# Altium schematic symbol library Capacitors.SchLib: 77 symbols (part 1 of 2)
Pins are listed as number, name and electrical type; pins without a type are passive.

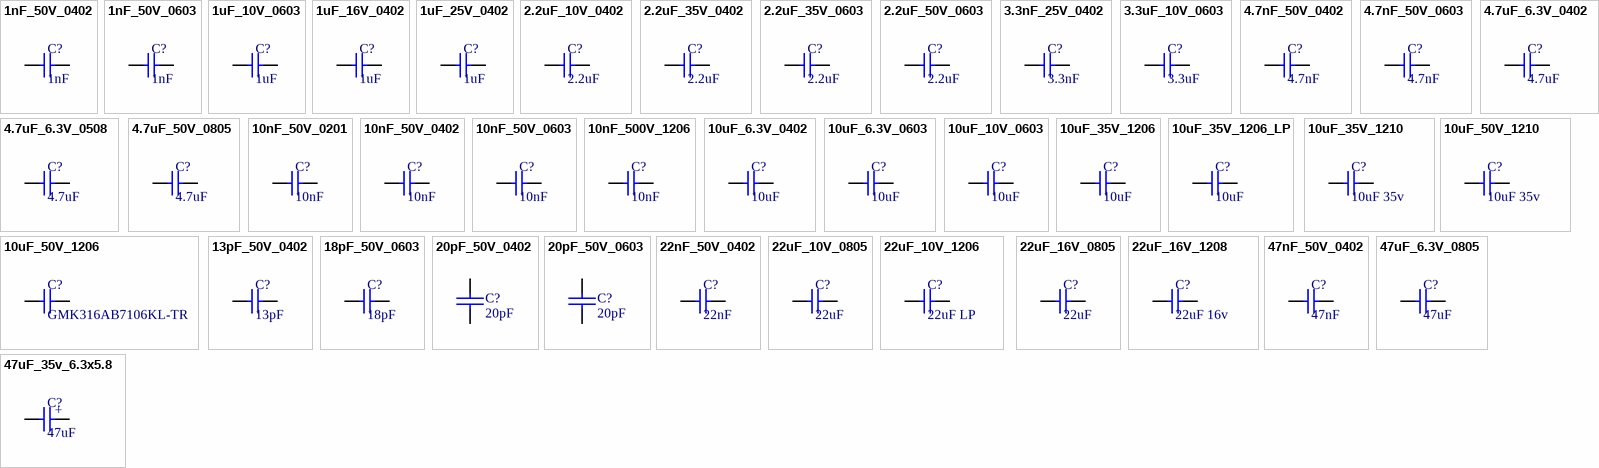
[diagram p0: symbols 1nF_50V_0402 to 47uF_35v_6.3x5.8]

## 1nF_50V_0402
designator C?, comment 1nF
CAP CER 1000PF 50V 10% X7R 0402; Manufacturer: Samsung Electro-Mechanics America, Inc; Manufacturer Part Number: CL05B102KB5NNNC; Supplier 1: Digi-Key; RoHS: RoHS Compliant; Category: Capacitors; Stock 1: 699283; Pricing 1: 1=0.14, 10=0.016, 25=0.012, 100=0.0077, 500=0.00536, 1000=0.00418, 2500=0.00376, 5000=0.00348 (CAD); Packaging: Cut Tape (CT); Capacitance: 1000pF; Tolerance: ±10%; Voltage - Rated: 50V; Temperature Coefficient: X7R; Mounting Type: Surface Mount, MLCC; Operating Temperature: -55°C ~ 125°C; Applications: General Purpose; Ratings: -; Package / Case: 0402 (1005 Metric); Size / Dimension: 0.039" L x 0.020" W (1.00mm x 0.50mm); Height - Seated (Max): -; Thickness (Max): 0.022" (0.55mm); Lead Spacing: -; Features: -; Lead Style: -; ComponentLink1URL: http://www.samsungsem.com/kr/front/downloadcms.do?path=/kr/support/product-search/mlcc/__icsFiles/afieldfile/2014/11/05&fileName=S_CL05B102KB5NNNC.pdf; ComponentLink1Description: http://www.samsungsem.com/kr/front/downloadcms.do?path=/kr/support/product-search/mlcc/__icsFiles/afieldfile/2014/11/05&fileName=S_CL05B102KB5NNNC.pdf; Supplier Part Number 1: 1276-1032-1-ND
footprint CAP_0402_M (Chip Capacitor, 2-Leads, Body 1.00x0.50mm, IPC Medium Density)
pins: 1, 2

## 1nF_50V_0603
designator C?, comment 1nF
CAP CER 1000PF 50V 10% X7R 0603; Manufacturer: Kemet; Manufacturer Part Number: C0603C102K5RACTU; Supplier 1: Digi-Key; Supplier Part Number 1: 399-1082-1-ND; RoHS: RoHS Compliant; Category: Capacitors; Stock 1: 898768; Pricing 1: 1=0.13, 10=0.03, 25=0.0216, 50=0.0166, 100=0.0141, 250=0.01156, 1000=0.00754 (CAD); Packaging: Cut Tape (CT); Capacitance: 1000pF; Tolerance: ±10%; Voltage - Rated: 50V; Temperature Coefficient: X7R; Mounting Type: Surface Mount, MLCC; Operating Temperature: -55°C ~ 125°C; Applications: General Purpose; Ratings: -; Package / Case: 0603 (1608 Metric); Size / Dimension: 0.063" L x 0.031" W (1.60mm x 0.80mm); Height - Seated (Max): -; Thickness (Max): 0.034" (0.87mm); Lead Spacing: -; Features: -; Lead Style: -; ComponentLink1URL: http://www.kemet.com/docfinder?Partnumber=C0603C102K5RACTU; ComponentLink1Description: http://www.kemet.com/docfinder?Partnumber=C0603C102K5RACTU
footprint CAP_0603 (Chip Capacitor, 2-Leads, Body 1,6x0,8mm, IPC High Density)
pins: 1, 2

## 1uF_10V_0603
designator C?, comment 1uF
CAP CER 1UF 10V 10% X7R 0603; Manufacturer: Taiyo Yuden; Manufacturer Part Number: LMK107B7105KA-T; Capacitance: 1.0µF; Supplier 1: Digi-Key; Supplier Part Number 1: 587-1242-1-ND; RoHS: RoHS Compliant; Category: Capacitors; Stock 1: 734203; Pricing 1: 1=0.13, 10=0.052, 50=0.028, 100=0.0235, 250=0.01924, 500=0.01646, 1000=0.01282 (CAD); Packaging: Cut Tape (CT); Tolerance: ±10%; Voltage - Rated: 10V; Temperature Coefficient: X7R; Mounting Type: Surface Mount, MLCC; Operating Temperature: -55°C ~ 125°C; Applications: General Purpose; Ratings: -; Package / Case: 0603 (1608 Metric); Size / Dimension: 0.063" L x 0.031" W (1.60mm x 0.80mm); Height - Seated (Max): -; Thickness (Max): 0.035" (0.90mm); Lead Spacing: -; Features: -; Lead Style: -; ComponentLink1URL: http://www.yuden.co.jp/or/product/category/capacitor/LMK107B7105KA-T.pdf; ComponentLink1Description: http://www.yuden.co.jp/or/product/category/capacitor/LMK107B7105KA-T.pdf
footprint CAP_0603 (Chip Capacitor, 2-Leads, Body 1,6x0,8mm, IPC High Density)
pins: 1, 2

## 1uF_16V_0402
designator C?, comment 1uF
CAP CER 1UF 16V 10% X5R 0402; Manufacturer: TDK Corporation; Manufacturer Part Number: C1005X5R1C105K050BC; Capacitance: 1µF; Supplier 1: Digi-Key; RoHS: RoHS Compliant; Category: Capacitors; Stock 1: 3360264; Pricing 1: 1=0.16, 10=0.108, 100=0.0514, 250=0.04328, 500=0.03626, 1000=0.02976, 5000=0.02516 (CAD); Packaging: Cut Tape (CT); Tolerance: ±10%; Voltage - Rated: 16V; Temperature Coefficient: X5R; Mounting Type: Surface Mount, MLCC; Operating Temperature: -55°C ~ 85°C; Applications: General Purpose; Ratings: -; Package / Case: 0402 (1005 Metric); Size / Dimension: 0.039" L x 0.020" W (1.00mm x 0.50mm); Height - Seated (Max): -; Thickness (Max): 0.022" (0.55mm); Lead Spacing: -; Features: -; Lead Style: -; ComponentLink1URL: http://product.tdk.com/en/catalog/datasheets/mlcc_commercial_general_en.pdf; ComponentLink1Description: http://product.tdk.com/en/catalog/datasheets/mlcc_commercial_general_en.pdf; Supplier Part Number 1: 445-4978-1-ND
footprint CAP_0402_M (Chip Capacitor, 2-Leads, Body 1.00x0.50mm, IPC Medium Density)
pins: 1, 2

## 1uF_25V_0402
designator C?, comment 1uF
CAP CER 1UF 25V 10% X5R 0402; Manufacturer: TDK Corporation; Manufacturer Part Number: C1005X5R1E105K050BC; Capacitance: 1µF; Supplier 1: Digi-Key; RoHS: RoHS Compliant; Category: Capacitors; Stock 1: 310467; Pricing 1: 1=0.27, 10=0.185, 100=0.0878, 250=0.074, 500=0.06196, 1000=0.05087, 5000=0.04301 (CAD); Packaging: Cut Tape (CT); Tolerance: ±10%; Voltage - Rated: 25V; Temperature Coefficient: X5R; Mounting Type: Surface Mount, MLCC; Operating Temperature: -55°C ~ 85°C; Applications: General Purpose; Ratings: -; Package / Case: 0402 (1005 Metric); Size / Dimension: 0.039" L x 0.020" W (1.00mm x 0.50mm); Height - Seated (Max): -; Thickness (Max): 0.022" (0.55mm); Lead Spacing: -; Features: -; Lead Style: -; ComponentLink1URL: http://product.tdk.com/en/catalog/datasheets/mlcc_commercial_general_en.pdf; ComponentLink1Description: http://product.tdk.com/en/catalog/datasheets/mlcc_commercial_general_en.pdf; Supplier Part Number 1: 445-9066-1-ND
footprint CAP_0402_M (Chip Capacitor, 2-Leads, Body 1.00x0.50mm, IPC Medium Density)
pins: 1, 2

## 2.2uF_10V_0402
designator C?, comment 2.2uF
CAP CER 2.2UF 10V 20% X5R 0402; Manufacturer: Taiyo Yuden; Manufacturer Part Number: LMK105BJ225MV-F; Capacitance: 2.2µF; Supplier 1: Digi-Key; RoHS: RoHS Compliant; Category: Capacitors; Stock 1: 258065; Pricing 1: 1=0.26, 10=0.173, 50=0.105, 100=0.0881, 250=0.07132, 500=0.0629, 1000=0.05348, 2500=0.04928, 5000=0.04509 (CAD); Packaging: Cut Tape (CT); Tolerance: ±20%; Voltage - Rated: 10V; Temperature Coefficient: X5R; Mounting Type: Surface Mount, MLCC; Operating Temperature: -55°C ~ 85°C; Applications: General Purpose; Ratings: -; Package / Case: 0402 (1005 Metric); Size / Dimension: 0.039" L x 0.020" W (1.00mm x 0.50mm); Height - Seated (Max): -; Thickness (Max): 0.022" (0.55mm); Lead Spacing: -; Features: -; Lead Style: -; ComponentLink1URL: http://www.yuden.co.jp/ut/product/category/capacitor/LMK105BJ225MV-F.pdf; ComponentLink1Description: http://www.yuden.co.jp/ut/product/category/capacitor/LMK105BJ225MV-F.pdf; Supplier Part Number 1: 587-3153-1-ND
footprint CAP_0402_M (Chip Capacitor, 2-Leads, Body 1.00x0.50mm, IPC Medium Density)
pins: 1, 2

## 2.2uF_35V_0402
designator C?, comment 2.2uF
CAP CER 2.2UF 35V 10% X5R 0402; Manufacturer: Murata Electronics North America; Manufacturer Part Number: GRM188R6YA225KA12D; Capacitance: 2.2µF; Supplier 1: Digi-Key; RoHS: RoHS Compliant; Category: Capacitors; Stock 1: 55248; Pricing 1: 1=0.31, 10=0.214, 50=0.1298, 100=0.109, 250=0.08832, 500=0.07792, 1000=0.06624 (CAD); Packaging: Cut Tape (CT); Tolerance: ±10%; Voltage - Rated: 35V; Temperature Coefficient: X5R; Mounting Type: Surface Mount, MLCC; Operating Temperature: -55°C ~ 85°C; Applications: General Purpose; Ratings: -; Package / Case: 0603 (1608 Metric); Size / Dimension: 0.063" L x 0.031" W (1.60mm x 0.80mm); Height - Seated (Max): -; Thickness (Max): 0.031" (0.80mm); Lead Spacing: -; Features: -; Lead Style: -; ComponentLink1URL: http://www.murata.com/~/media/webrenewal/support/library/catalog/products/capacitor/mlcc/c02e.ashx; ComponentLink1Description: http://www.murata.com/~/media/webrenewal/support/library/catalog/products/capacitor/mlcc/c02e.ashx; Supplier Part Number 1: 490-7204-1-ND
footprint CAP_0402_M (Chip Capacitor, 2-Leads, Body 1.00x0.50mm, IPC Medium Density)
pins: 1, 2

## 2.2uF_35V_0603
designator C?, comment 2.2uF
CAP CER 2.2UF 35V 10% X5R 0603; Manufacturer: Murata Electronics North America; Manufacturer Part Number: GRM188R6YA225KA12D; Capacitance: 2.2µF; Supplier 1: Digi-Key; Supplier Part Number 1: 490-7204-1-ND; RoHS: RoHS Compliant; Category: Capacitors; Stock 1: 55248; Pricing 1: 1=0.31, 10=0.214, 50=0.1298, 100=0.109, 250=0.08832, 500=0.07792, 1000=0.06624 (CAD); Packaging: Cut Tape (CT); Tolerance: ±10%; Voltage - Rated: 35V; Temperature Coefficient: X5R; Mounting Type: Surface Mount, MLCC; Operating Temperature: -55°C ~ 85°C; Applications: General Purpose; Ratings: -; Package / Case: 0603 (1608 Metric); Size / Dimension: 0.063" L x 0.031" W (1.60mm x 0.80mm); Height - Seated (Max): -; Thickness (Max): 0.031" (0.80mm); Lead Spacing: -; Features: -; Lead Style: -; ComponentLink1URL: http://www.murata.com/~/media/webrenewal/support/library/catalog/products/capacitor/mlcc/c02e.ashx; ComponentLink1Description: http://www.murata.com/~/media/webrenewal/support/library/catalog/products/capacitor/mlcc/c02e.ashx
footprint CAP_0603 (Chip Capacitor, 2-Leads, Body 1,6x0,8mm, IPC High Density)
pins: 1, 2

## 2.2uF_50V_0603
designator C?, comment 2.2uF
CAP CER 2.2UF 50V 10% X5R 0603; Manufacturer: Murata; Manufacturer Part Number: GRM188R61H225KE11D; Description: 2.2µF 50V Ceramic Capacitor X5R 0603 (1608 Metric) 0.063" L x 0.031" W (1.60mm x 0.80mm); Material: Ceramic; Supplier 1: Digi-Key; Stock 1: 47665; Pricing 1: 1=0.3, 10=0.207, 100=0.1242, 500=0.0932, 1000=0.0787 (USD); Mount: Surface Mount; Case/Package: 0603; Case Code (Metric): 1608; Case Code (Imperial): 0603; Min Operating Temperature: -55°C; Max Operating Temperature: 85°C; Tolerance: 10%; Dielectric: X5R; Packaging: Cut Tape; Capacitance: 2.2uF; Voltage Rating: 50V; Voltage Rating (DC): 50V; Length: 0.063inch; Height: 0.8mm; Width: 0.031inch; Thickness: 0.039inch; REACH SVHC: No SVHC; Supplier Part Number 1: 490-10733-1-ND
footprint CAPC1608X09L (Chip Capacitor, 2-Leads, Body 1.60x0.80mm, IPC High Density)
pins: 1, 2

## 3.3nF_25V_0402
designator C?, comment 3.3nF
CAP CER 3.3NF 25V 10% X7R 0402; Manufacturer: Kemet; Manufacturer Part Number: C0402C332K3RACTU; Capacitance: 3300pF; Supplier 1: Digi-Key; RoHS: RoHS Compliant; Category: Capacitors; Stock 1: 32735; Pricing 1: 1=0.15, 10=0.091, 50=0.0496, 100=0.0418, 250=0.03424, 500=0.02928, 1000=0.02281, 2500=0.02053, 5000=0.01901 (CAD); Packaging: Cut Tape (CT); Tolerance: ±10%; Voltage - Rated: 25V; Temperature Coefficient: X7R; Mounting Type: Surface Mount, MLCC; Operating Temperature: -55°C ~ 125°C; Applications: General Purpose; Ratings: -; Package / Case: 0402 (1005 Metric); Size / Dimension: 0.039" L x 0.020" W (1.00mm x 0.50mm); Height - Seated (Max): -; Thickness (Max): 0.022" (0.55mm); Lead Spacing: -; Features: -; Lead Style: -; ComponentLink1URL: http://www.kemet.com/docfinder?Partnumber=C0402C332K3RACTU; ComponentLink1Description: http://www.kemet.com/docfinder?Partnumber=C0402C332K3RACTU; Supplier Part Number 1: 399-7789-1-ND
footprint CAP_0402_M (Chip Capacitor, 2-Leads, Body 1.00x0.50mm, IPC Medium Density)
pins: 1, 2

## 3.3uF_10V_0603
designator C?, comment 3.3uF
CAP CER 3.3UF 10V 20% X5R 0603; Manufacturer: TDK Corporation; Manufacturer Part Number: C1608X5R1A335M080AC; Capacitance: 3.3µF; Supplier 1: Digi-Key; Supplier Part Number 1: 445-5169-1-ND; RoHS: RoHS Compliant; Category: Capacitors; Stock 1: 15168; Pricing 1: 1=0.38, 10=0.317, 100=0.1585, 250=0.11888, 500=0.105, 1000=0.09128 (CAD); Packaging: Cut Tape (CT); Tolerance: ±20%; Voltage - Rated: 10V; Temperature Coefficient: X5R; Mounting Type: Surface Mount, MLCC; Operating Temperature: -55°C ~ 85°C; Applications: General Purpose; Ratings: -; Package / Case: 0603 (1608 Metric); Size / Dimension: 0.063" L x 0.031" W (1.60mm x 0.80mm); Height - Seated (Max): -; Thickness (Max): 0.037" (0.95mm); Lead Spacing: -; Features: -; Lead Style: -; ComponentLink1URL: http://product.tdk.com/en/catalog/datasheets/mlcc_commercial_general_en.pdf; ComponentLink1Description: http://product.tdk.com/en/catalog/datasheets/mlcc_commercial_general_en.pdf
footprint CAP_0603 (Chip Capacitor, 2-Leads, Body 1,6x0,8mm, IPC High Density)
pins: 1, 2

## 4.7nF_50V_0402
designator C?, comment 4.7nF
CAP CER 4700PF 50V 10% X7R 0402; Manufacturer: Samsung Electro-Mechanics America, Inc.; Manufacturer Part Number: CL05B472KA5NNNC; Voltage - Rated: 25V; Supplier 1: Digi-Key; Supplier Part Number 1: 1276-1571-1-ND; RoHS: RoHS Compliant; Category: Capacitors; Stock 1: 114464; Pricing 1: 1=0.15, 10=0.02, 25=0.0132, 50=0.0104, 100=0.0088, 500=0.00614, 1000=0.00479, 5000=0.00399 (CAD); Packaging: Cut Tape (CT); Capacitance: 4700pF; Tolerance: ±10%; Temperature Coefficient: X7R; Mounting Type: Surface Mount, MLCC; Operating Temperature: -55°C ~ 125°C; Applications: General Purpose; Ratings: -; Package / Case: 0402 (1005 Metric); Size / Dimension: 0.039" L x 0.020" W (1.00mm x 0.50mm); Height - Seated (Max): -; Thickness (Max): 0.022" (0.55mm); Lead Spacing: -; Features: -; Lead Style: -; ComponentLink1URL: http://www.samsungsem.com/kr/support/product-search/mlcc/CL05B472KA5NNNC.jsp; ComponentLink1Description: http://www.samsungsem.com/kr/support/product-search/mlcc/CL05B472KA5NNNC.jsp
footprint CAP_0402_M (Chip Capacitor, 2-Leads, Body 1.00x0.50mm, IPC Medium Density)
pins: 1, 2

## 4.7nF_50V_0603
designator C?, comment 4.7nF
CAP CER 4700PF 50V 10% X7R 0603; Manufacturer: Kemet; Manufacturer Part Number: C0603C102K5RACTU; Capacitance: 1000pF; RoHS: RoHS Compliant; Category: Capacitors; Packaging: Cut Tape (CT); Tolerance: ±10%; Voltage - Rated: 50V; Temperature Coefficient: X7R; Mounting Type: Surface Mount, MLCC; Operating Temperature: -55°C ~ 125°C; Applications: General Purpose; Ratings: -; Package / Case: 0603 (1608 Metric); Size / Dimension: 0.063" L x 0.031" W (1.60mm x 0.80mm); Height - Seated (Max): -; Thickness (Max): 0.034" (0.87mm); Lead Spacing: -; Features: -; Lead Style: -; ComponentLink1URL: http://www.kemet.com/docfinder?Partnumber=C0603C102K5RACTU; ComponentLink1Description: http://www.kemet.com/docfinder?Partnumber=C0603C102K5RACTU; Supplier 1: Digi-Key; Stock 1: 163221; Pricing 1: 1=0.13, 10=0.034, 25=0.024, 100=0.0153, 500=0.01072, 1000=0.00835 (CAD); ComponentLink2URL: http://www.samsungsem.com/kr/front/downloadcms.do?path=/kr/support/product-search/mlcc/__icsFiles/afieldfile/2014/11/05&fileName=S_CL10B472KB8SFNC.pdf; ComponentLink2Description: http://www.samsungsem.com/kr/front/downloadcms.do?path=/kr/support/product-search/mlcc/__icsFiles/afieldfile/2014/11/05&fileName=S_CL10B472KB8SFNC.pdf; Supplier Part Number 1: 1276-2066-1-ND
footprint CAP_0603 (Chip Capacitor, 2-Leads, Body 1,6x0,8mm, IPC High Density)
pins: 1, 2

## 4.7uF_6.3V_0402
designator C?, comment 4.7uF
CAP CER 4.7UF 6.3V 20% X5R 0402; Manufacturer: Murata Electronics North America; Manufacturer Part Number: GRM155R60J475ME47D; Capacitance: 4.7µF; Supplier 1: Digi-Key; Supplier Part Number 1: 490-5915-1-ND; RoHS: RoHS Compliant; Category: Capacitors; Stock 1: 132976; Pricing 1: 1=0.23, 10=0.152, 50=0.0876, 100=0.0722, 250=0.06084, 500=0.05094, 1000=0.04182, 5000=0.03535 (CAD); Packaging: Cut Tape (CT); Tolerance: ±20%; Voltage - Rated: 6.3V; Temperature Coefficient: X5R; Mounting Type: Surface Mount, MLCC; Operating Temperature: -55°C ~ 85°C; Applications: General Purpose; Ratings: -; Package / Case: 0402 (1005 Metric); Size / Dimension: 0.039" L x 0.020" W (1.00mm x 0.50mm); Height - Seated (Max): -; Thickness (Max): 0.024" (0.60mm); Lead Spacing: -; Features: Derating Recommended; Lead Style: -; ComponentLink1URL: http://www.murata.com/~/media/webrenewal/support/library/catalog/products/capacitor/mlcc/c02e.pdf; ComponentLink1Description: http://www.murata.com/~/media/webrenewal/support/library/catalog/products/capacitor/mlcc/c02e.pdf
footprint CAP_0402_L (Chip Capacitor, 2-Leads, Body 1.00x0.50mm, IPC High Density)
pins: 1, 2

## 4.7uF_6.3V_0508
designator C?, comment 4.7uF
CAP CER 4.7UF 6.3V 10% X6S 0508; Manufacturer: Taiyo Yuden; Manufacturer Part Number: JWK212C6475KD-T; Capacitance: 4.7µF; Supplier 1: Digi-Key; RoHS: RoHS Compliant; Category: Capacitors; Stock 1: 572494; Pricing 1: 1=0.79, 10=0.623, 50=0.4112, 100=0.3262, 250=0.24104, 500=0.1872, 1000=0.14747 (CAD); Packaging: Cut Tape (CT); Tolerance: ±10%; Voltage - Rated: 6.3V; Temperature Coefficient: X6S; Mounting Type: Surface Mount, MLCC; Operating Temperature: -55°C ~ 105°C; Applications: Bypass, Decoupling; Ratings: -; Package / Case: 0508 (1220 Metric); Size / Dimension: 0.049" L x 0.079" W (1.25mm x 2.00mm); Height - Seated (Max): -; Thickness (Max): 0.037" (0.95mm); Lead Spacing: -; Features: Low ESL (Reverse Geometry); Lead Style: -; ComponentLink1URL: http://media.digikey.com/pdf/Data%20Sheets/Taiyo%20Yuden%20PDFs%20URL%20links/JWK212C6475KD-T.pdf; ComponentLink1Description: http://media.digikey.com/pdf/Data%20Sheets/Taiyo%20Yuden%20PDFs%20URL%20links/JWK212C6475KD-T.pdf; Supplier Part Number 1: 587-1237-1-ND
footprint CAPC1220X09N (Chip Capacitor, 2-Leads, Body 1.25x2.00mm, IPC Medium Density)
pins: 1, 2

## 4.7uF_50V_0805
designator C?, comment 4.7uF
CAP CER 4.7UF 50V X5R 0805; Manufacturer: Samsung Electro-Mechanics; Manufacturer Part Number: CL21A475KBQNNNE; Tolerance: ±10%; Notification: Current market demand for these product types have resulted in fluctuating and extending lead times. Lead times may differ.; Supplier 1: Digi-Key; RoHS: RoHS Compliant; Category: Capacitors; Stock 1: 20000; Pricing 1: 1=0.45, 10=0.321, 100=0.1978, 500=0.15142, 1000=0.12978 (USD); Packaging: Cut Tape (CT); Part Status: Active; Voltage - Rated: 50V; Temperature Coefficient: X5R; Operating Temperature: -55°C ~ 85°C; Features: -; Ratings: -; Applications: General Purpose; Mounting Type: Surface Mount, MLCC; Package / Case: 0805 (2012 Metric); Size / Dimension: 0.079" L x 0.049" W (2.00mm x 1.25mm); Height - Seated (Max): -; Thickness (Max): 0.055" (1.40mm); Lead Spacing: -; Lead Style: -; ComponentLink1URL: http://www.samsungsem.com/kr/support/product-search/mlcc/CL21A475KBQNNNE.jsp; ComponentLink1Description: http://www.samsungsem.com/kr/support/product-search/mlcc/CL21A475KBQNNNE.jsp; Supplier Part Number 1: 1276-1248-1-ND
footprint CAPC2012X10L (Chip Capacitor, 2-Leads, Body 2.00x1.25mm, IPC High Density)
pins: 1, 2

## 10nF_50V_0201
designator C?, comment 10nF
CAP CER 10000PF 50V X5R 0201; Manufacturer: Taiyo Yuden; Manufacturer Part Number: UMK063BJ103KP-F; Tolerance: ±10%; Notification: Current market demand for these product types have resulted in fluctuating and extending lead times. Lead times may differ.; Failure Rate: -; Supplier 1: Digi-Key; RoHS: RoHS Compliant; Category: Capacitors; Stock 1: 13100; Pricing 1: 1=0.13, 10=0.094, 100=0.0421, 500=0.03006, 1000=0.02362, 2500=0.02148, 5000=0.01976 (USD); Packaging: Cut Tape (CT); Part Status: Active; Voltage - Rated: 50V; Temperature Coefficient: X5R; Operating Temperature: -55°C ~ 85°C; Features: -; Ratings: -; Applications: General Purpose; Mounting Type: Surface Mount, MLCC; Package / Case: 0201 (0603 Metric); Size / Dimension: 0.024" L x 0.012" W (0.60mm x 0.30mm); Height - Seated (Max): -; Thickness (Max): 0.013" (0.33mm); Lead Spacing: -; Lead Style: -; ComponentLink1URL: http://ds.yuden.co.jp/TYCOMPAS/ut/detail.do?productNo=UMK063BJ103KP-F&fileName=UMK063BJ103KP-F_SS&mode=specSheetDownload; ComponentLink1Description: http://ds.yuden.co.jp/TYCOMPAS/ut/detail.do?productNo=UMK063BJ103KP-F&fileName=UMK063BJ103KP-F_SS&mode=specSheetDownload; Supplier Part Number 1: 587-5953-1-ND
footprint CAPC0603X03N (Chip Capacitor, 2-Leads, Body 0.60x0.30mm, IPC Medium Density)
pins: 1, 2

## 10nF_50V_0402
designator C?, comment 10nF
CAP CER 10000PF 50V 10% X7R 0402; Manufacturer: Kemet; Manufacturer Part Number: C0402C103K5RACTU; Supplier 1: Digi-Key; RoHS: RoHS Compliant; Category: Capacitors; Stock 1: 3556921; Pricing 1: 1=0.14, 10=0.037, 25=0.026, 50=0.0198, 100=0.0166, 250=0.01364, 1000=0.00893, 2500=0.00804, 5000=0.00744 (CAD); Packaging: Cut Tape (CT); Capacitance: 10000pF; Tolerance: ±10%; Voltage - Rated: 50V; Temperature Coefficient: X7R; Mounting Type: Surface Mount, MLCC; Operating Temperature: -55°C ~ 125°C; Applications: General Purpose; Ratings: -; Package / Case: 0402 (1005 Metric); Size / Dimension: 0.039" L x 0.020" W (1.00mm x 0.50mm); Height - Seated (Max): -; Thickness (Max): 0.022" (0.55mm); Lead Spacing: -; Features: -; Lead Style: -; ComponentLink1URL: http://www.kemet.com/docfinder?Partnumber=C0402C103K5RACTU; ComponentLink1Description: http://www.kemet.com/docfinder?Partnumber=C0402C103K5RACTU; Supplier Part Number 1: 399-3066-1-ND
footprint CAP_0402_M (Chip Capacitor, 2-Leads, Body 1.00x0.50mm, IPC Medium Density)
pins: 1, 2

## 10nF_50V_0603
designator C?, comment 10nF
CAP CER 10000PF 50V 10% X7R 0603; Manufacturer: Kemet; Manufacturer Part Number: C0603C103K5RACTU; Supplier 1: Digi-Key; Supplier Part Number 1: 399-1091-1-ND; RoHS: RoHS Compliant; Category: Capacitors; Stock 1: 1996232; Pricing 1: 1=0.13, 10=0.025, 25=0.0176, 50=0.0134, 100=0.0113, 250=0.00924, 1000=0.00603 (CAD); Packaging: Cut Tape (CT); Capacitance: 10000pF; Tolerance: ±10%; Voltage - Rated: 50V; Temperature Coefficient: X7R; Mounting Type: Surface Mount, MLCC; Operating Temperature: -55°C ~ 125°C; Applications: General Purpose; Ratings: -; Package / Case: 0603 (1608 Metric); Size / Dimension: 0.063" L x 0.031" W (1.60mm x 0.80mm); Height - Seated (Max): -; Thickness (Max): 0.034" (0.87mm); Lead Spacing: -; Features: -; Lead Style: -; ComponentLink1URL: http://www.kemet.com/docfinder?Partnumber=C0603C103K5RACTU; ComponentLink1Description: http://www.kemet.com/docfinder?Partnumber=C0603C103K5RACTU
footprint CAP_0603 (Chip Capacitor, 2-Leads, Body 1,6x0,8mm, IPC High Density)
pins: 1, 2

## 10nF_500V_1206
designator C?, comment 10nF
CAP CER 10000PF 500V X7R 1206; Manufacturer: Samsung Electro-Mechanics America, Inc; Manufacturer Part Number: CL31B103KGFNNNE; Tolerance: ±10%; Supplier 1: Digi-Key; Supplier Part Number 1: 1276-3076-1-ND; RoHS: RoHS Compliant; Category: Capacitors; Stock 1: 9075; Pricing 1: 1=0.34, 10=0.28, 25=0.192, 100=0.1398, 500=0.09266, 1000=0.08216 (CAD); Packaging: Cut Tape (CT); Capacitance: 10000pF; Voltage - Rated: 500V; Temperature Coefficient: X7R; Mounting Type: Surface Mount, MLCC; Operating Temperature: -55°C ~ 125°C; Applications: General Purpose; Ratings: -; Package / Case: 1206 (3216 Metric); Size / Dimension: 0.126" L x 0.063" W (3.20mm x 1.60mm); Height - Seated (Max): -; Thickness (Max): 0.055" (1.40mm); Lead Spacing: -; Features: -; Lead Style: -; ComponentLink1URL: http://www.samsungsem.com/kr/front/downloadcms.do?path=/kr/support/product-search/mlcc/__icsFiles/afieldfile/2014/11/05&fileName=S_CL31B103KGFNNNE.pdf; ComponentLink1Description: http://www.samsungsem.com/kr/front/downloadcms.do?path=/kr/support/product-search/mlcc/__icsFiles/afieldfile/2014/11/05&fileName=S_CL31B103KGFNNNE.pdf
footprint CAP_1206 (Chip Capacitor, 2-Leads, Body 3,1x1,6mm, IPC High Density)
pins: 1, 2

## 10uF_6.3V_0402
designator C?, comment 10uF
CAP CER 10UF 6.3V X5R 0402; Manufacturer: Murata Electronics North America; Manufacturer Part Number: GRJ155R60J106ME11D; Tolerance: ±20%; Supplier 1: Digi-Key; RoHS: RoHS Compliant; Category: Capacitors; Stock 1: 100000; Pricing 1: 1=0.25, 10=0.173, 100=0.0876, 500=0.0599, 1000=0.05299, 2500=0.05069, 5000=0.04608 (USD); Packaging: Cut Tape (CT); Part Status: Active; Voltage - Rated: 6.3V; Temperature Coefficient: X5R; Operating Temperature: -55°C ~ 85°C; Features: Soft Termination; Ratings: -; Applications: Boardflex Sensitive; Mounting Type: Surface Mount, MLCC; Package / Case: 0402 (1005 Metric); Size / Dimension: 0.039" L x 0.020" W (1.00mm x 0.50mm); Height - Seated (Max): -; Thickness (Max): 0.028" (0.70mm); Lead Spacing: -; Lead Style: -; ComponentLink1URL: http://psearch.en.murata.com/capacitor/product/GRJ155R60J106ME11#.pdf; ComponentLink1Description: http://psearch.en.murata.com/capacitor/product/GRJ155R60J106ME11#.pdf; Supplier Part Number 1: 490-13211-1-ND
footprint CAP_0402_L (Chip Capacitor, 2-Leads, Body 1.00x0.50mm, IPC High Density)
pins: 1, 2

## 10uF_6.3V_0603
designator C?, comment 10uF
CAP CER 10UF 6.3V 20% X5R 0603; Manufacturer: Taiyo Yuden; Manufacturer Part Number: JMK107ABJ106MAHT; Capacitance: 10µF; Supplier 1: Digi-Key; RoHS: RoHS Compliant; Category: Capacitors; Stock 1: 1305576; Pricing 1: 1=0.32, 10=0.219, 50=0.126, 100=0.104, 250=0.0876, 500=0.07336, 1000=0.06022 (CAD); Packaging: Cut Tape (CT); Tolerance: ±20%; Voltage - Rated: 6.3V; Temperature Coefficient: X5R; Mounting Type: Surface Mount, MLCC; Operating Temperature: -55°C ~ 85°C; Applications: Automotive; Ratings: AEC-Q200; Package / Case: 0603 (1608 Metric); Size / Dimension: 0.063" L x 0.031" W (1.60mm x 0.80mm); Height - Seated (Max): -; Thickness (Max): 0.035" (0.90mm); Lead Spacing: -; Features: -; Lead Style: -; ComponentLink1URL: http://ds.yuden.co.jp/TYCOMPAS/ut/detail.do?productNo=JMK107ABJ106MAHT&fileName=JMK107ABJ106MAHT_SS&mode=specSheetDownload; ComponentLink1Description: http://ds.yuden.co.jp/TYCOMPAS/ut/detail.do?productNo=JMK107ABJ106MAHT&fileName=JMK107ABJ106MAHT_SS&mode=specSheetDownload; Supplier Part Number 1: 587-3383-1-ND
footprint CAP_0603 (Chip Capacitor, 2-Leads, Body 1,6x0,8mm, IPC High Density)
pins: 1, 2

## 10uF_10V_0603
designator C?, comment 10uF
CAP CER 10UF 10V 20% X5R 0603; Manufacturer: Taiyo Yuden; Manufacturer Part Number: LMK107BBJ106MAHT; Capacitance: 10µF; Supplier 1: Digi-Key; Supplier Part Number 1: 587-3412-1-ND; RoHS: RoHS Compliant; Category: Capacitors; Stock 1: 90195; Pricing 1: 1=0.5, 10=0.437, 50=0.266, 100=0.2189, 250=0.17516, 500=0.15952, 1000=0.14107 (CAD); Packaging: Cut Tape (CT); Tolerance: ±20%; Voltage - Rated: 10V; Temperature Coefficient: X5R; Mounting Type: Surface Mount, MLCC; Operating Temperature: -55°C ~ 85°C; Applications: Automotive; Ratings: AEC-Q200; Package / Case: 0603 (1608 Metric); Size / Dimension: 0.063" L x 0.031" W (1.60mm x 0.80mm); Height - Seated (Max): -; Thickness (Max): 0.035" (0.90mm); Lead Spacing: -; Features: -; Lead Style: -; ComponentLink1URL: http://www.yuden.co.jp/productdata/catalog/en/mlcc01_hq_e.pdf; ComponentLink1Description: http://www.yuden.co.jp/productdata/catalog/en/mlcc01_hq_e.pdf
footprint CAP_0603 (Chip Capacitor, 2-Leads, Body 1,6x0,8mm, IPC High Density)
pins: 1, 2

## 10uF_35V_1206
designator C?, comment 10uF
CAP CER 10UF 35V Y5V 1206; Manufacturer: Taiyo Yuden; Manufacturer Part Number: GMK316F106ZL-T; Capacitance: 10µF; Tolerance: -20%, +80%; Temperature Coefficient: Y5V (F); Supplier 1: Digi-Key; Supplier Part Number 1: 587-1352-1-ND; RoHS: RoHS Compliant; Category: Capacitors; Stock 1: 387124; Pricing 1: 1=0.36, 10=0.246, 50=0.149, 100=0.1251, 250=0.10124, 500=0.08934, 1000=0.07594 (CAD); Packaging: Cut Tape (CT); Voltage - Rated: 35V; Mounting Type: Surface Mount, MLCC; Operating Temperature: -30°C ~ 85°C; Applications: General Purpose; Ratings: -; Package / Case: 1206 (3216 Metric); Size / Dimension: 0.126" L x 0.063" W (3.20mm x 1.60mm); Height - Seated (Max): -; Thickness (Max): 0.071" (1.80mm); Lead Spacing: -; Features: -; Lead Style: -; ComponentLink1URL: http://www.yuden.co.jp/or/product/category/capacitor/GMK316F106ZL-T.pdf; ComponentLink1Description: http://www.yuden.co.jp/or/product/category/capacitor/GMK316F106ZL-T.pdf
footprint CAP_1206 (Chip Capacitor, 2-Leads, Body 3,1x1,6mm, IPC High Density)
pins: 1, 2

## 10uF_35V_1206_LP
designator C?, comment 10uF
CAP CER 10UF 35V X5R 1206; Manufacturer: Murata Electronics North America; Manufacturer Part Number: GRM319R6YA106MA12D; Capacitance: 10µF; Tolerance: ±20%; Supplier 1: Digi-Key; RoHS: RoHS Compliant; Category: Capacitors; Stock 1: 2781; Pricing 1: 1=0.42, 10=0.349, 50=0.1962, 100=0.1742, 250=0.13068, 500=0.11546, 1000=0.10237 (CAD); Packaging: Cut Tape (CT); Voltage - Rated: 35V; Temperature Coefficient: X5R; Mounting Type: Surface Mount, MLCC; Operating Temperature: -55°C ~ 85°C; Applications: General Purpose; Ratings: -; Package / Case: 1206 (3216 Metric); Size / Dimension: 0.126" L x 0.063" W (3.20mm x 1.60mm); Height - Seated (Max): -; Thickness (Max): 0.037" (0.95mm); Lead Spacing: -; Features: -; Lead Style: -; ComponentLink1URL: http://www.murata.com/~/media/webrenewal/support/library/catalog/products/capacitor/mlcc/c02e.ashx; ComponentLink1Description: http://www.murata.com/~/media/webrenewal/support/library/catalog/products/capacitor/mlcc/c02e.ashx; Supplier Part Number 1: 490-9965-1-ND
footprint CAP_1206_LP (Chip Capacitor, 2-Leads, Body 3,1x1,6mm, IPC High Density)
pins: 1, 2

## 10uF_35V_1210
designator C?, comment 10uF 35v
Capacitor 1210 10uF 35v; Manufacturer: Taiyo Yuden; Manufacturer Part Number: GMK325F106ZH-T; Capacitance: 10µF; Tolerance: -20%, +80%; Temperature Coefficient: Y5V (F); Supplier 1: Digi-Key; RoHS: RoHS Compliant; Category: Capacitors; Stock 1: 72077; Pricing 1: 1=0.44, 10=0.381, 50=0.231, 100=0.1903, 250=0.15228, 500=0.13868, 1000=0.12508 (CAD); Packaging: Cut Tape (CT); Voltage - Rated: 35V; Mounting Type: Surface Mount, MLCC; Operating Temperature: -30°C ~ 85°C; Applications: General Purpose; Ratings: -; Package / Case: 1210 (3225 Metric); Size / Dimension: 0.126" L x 0.098" W (3.20mm x 2.50mm); Height - Seated (Max): -; Thickness (Max): 0.063" (1.60mm); Lead Spacing: -; Features: -; Lead Style: -; ComponentLink1URL: http://www.yuden.co.jp/productdata/catalog/en/mlcc01_hq_e.pdf; ComponentLink1Description: http://www.yuden.co.jp/productdata/catalog/en/mlcc01_hq_e.pdf; Supplier Part Number 1: 587-1391-1-ND
footprint CAPC3225X16N (Chip Capacitor, 2-Leads, Body 3.20x2.50mm, IPC Medium Density)
pins: 1, 2

## 10uF_50V_1206
designator C?, comment GMK316AB7106KL-TR
CAP CER 10UF 35V X7R 1206; Manufacturer: Taiyo Yuden; Tolerance: ±10%; Notification: Current market demand for these product types have resulted in fluctuating and extending lead times. Lead times may differ.; Supplier 1: Digi-Key; Manufacturer Part Number: GMK316AB7106KL-TR; RoHS: RoHS Compliant; Category: Capacitors; Stock 1: 963471; Pricing 1: 1=0.54, 10=0.38, 100=0.25, 500=0.1852, 1000=0.15742 (USD); Packaging: Cut Tape (CT); Part Status: Active; Voltage - Rated: 35V; Temperature Coefficient: X7R; Operating Temperature: -55°C ~ 125°C; Features: -; Ratings: -; Applications: General Purpose; Mounting Type: Surface Mount, MLCC; Package / Case: 1206 (3216 Metric); Size / Dimension: 0.126" L x 0.063" W (3.20mm x 1.60mm); Height - Seated (Max): -; Thickness (Max): 0.071" (1.80mm); Lead Spacing: -; Lead Style: -; ComponentLink1URL: http://www.yuden.co.jp/productdata/catalog/mlcc06_e.pdf; ComponentLink1Description: http://www.yuden.co.jp/productdata/catalog/mlcc06_e.pdf; Supplier Part Number 1: 587-3007-1-ND
footprint CAP_1206 (Chip Capacitor, 2-Leads, Body 3,1x1,6mm, IPC High Density)
pins: 1, 2

## 10uF_50V_1210
designator C?, comment 10uF 35v
Capacitor 1210 10uF 35v; Manufacturer: Taiyo Yuden; Manufacturer Part Number: GMK325F106ZH-T; Capacitance: 10µF; Tolerance: -20%, +80%; Temperature Coefficient: Y5V (F); Supplier 1: Digi-Key; RoHS: RoHS Compliant; Category: Capacitors; Stock 1: 65847; Pricing 1: 1=0.46, 10=0.398, 50=0.2414, 100=0.1989, 250=0.15908, 500=0.1449, 1000=0.13069 (CAD); Packaging: Cut Tape (CT); Voltage - Rated: 35V; Mounting Type: Surface Mount, MLCC; Operating Temperature: -30°C ~ 85°C; Applications: General Purpose; Ratings: -; Package / Case: 1210 (3225 Metric); Size / Dimension: 0.126" L x 0.098" W (3.20mm x 2.50mm); Height - Seated (Max): -; Thickness (Max): 0.063" (1.60mm); Lead Spacing: -; Features: -; Lead Style: -; ComponentLink1URL: http://www.yuden.co.jp/productdata/catalog/en/mlcc01_hq_e.pdf; ComponentLink1Description: http://www.yuden.co.jp/productdata/catalog/en/mlcc01_hq_e.pdf; Supplier Part Number 1: 587-1391-1-ND
footprint CAPC3225X16N (Chip Capacitor, 2-Leads, Body 3.20x2.50mm, IPC Medium Density)
pins: 1, 2

## 13pF_50V_0402
designator C?, comment 13pF
CAP CER 13PF 50V 5% NP0 0402; Manufacturer: Samsung Electro-Mechanics America, Inc; Manufacturer Part Number: CL05C130JB5NNNC; Temperature Coefficient: C0G, NP0; Supplier 1: Digi-Key; RoHS: RoHS Compliant; Category: Capacitors; Stock 1: 16490; Pricing 1: 1=0.14, 10=0.064, 25=0.0448, 100=0.0291, 500=0.02032, 1000=0.01583, 2500=0.01425, 5000=0.01319 (CAD); Packaging: Cut Tape (CT); Capacitance: 13pF; Tolerance: ±5%; Voltage - Rated: 50V; Mounting Type: Surface Mount, MLCC; Operating Temperature: -55°C ~ 125°C; Applications: General Purpose; Ratings: -; Package / Case: 0402 (1005 Metric); Size / Dimension: 0.039" L x 0.020" W (1.00mm x 0.50mm); Height - Seated (Max): -; Thickness (Max): 0.022" (0.55mm); Lead Spacing: -; Features: -; Lead Style: -; ComponentLink1URL: http://www.samsungsem.com/kr/front/downloadcms.do?path=/kr/support/product-search/mlcc/__icsFiles/afieldfile/2014/11/05&fileName=S_CL05C130JB5NNNC.pdf; ComponentLink1Description: http://www.samsungsem.com/kr/front/downloadcms.do?path=/kr/support/product-search/mlcc/__icsFiles/afieldfile/2014/11/05&fileName=S_CL05C130JB5NNNC.pdf; Supplier Part Number 1: 1276-1642-1-ND
footprint CAP_0402_M (Chip Capacitor, 2-Leads, Body 1.00x0.50mm, IPC Medium Density)
pins: 1, 2

## 18pF_50V_0603
designator C?, comment 18pF
CAP CER 18PF 50V NP0 0603; Manufacturer: Kemet; Manufacturer Part Number: C0603C180J5GACTU; Tolerance: ±5%; Temperature Coefficient: C0G, NP0; Supplier 1: Digi-Key; RoHS: RoHS Compliant; Category: Capacitors; Stock 1: 498179; Pricing 1: 1=0.14, 10=0.049, 50=0.0262, 100=0.0222, 250=0.01816, 500=0.01552, 1000=0.0121 (CAD); Packaging: Cut Tape (CT); Capacitance: 18pF; Voltage - Rated: 50V; Mounting Type: Surface Mount, MLCC; Operating Temperature: -55°C ~ 125°C; Applications: General Purpose; Ratings: -; Package / Case: 0603 (1608 Metric); Size / Dimension: 0.063" L x 0.031" W (1.60mm x 0.80mm); Height - Seated (Max): -; Thickness (Max): 0.034" (0.87mm); Lead Spacing: -; Features: -; Lead Style: -; ComponentLink1URL: http://www.kemet.com/docfinder?Partnumber=C0603C180J5GACTU; ComponentLink1Description: http://www.kemet.com/docfinder?Partnumber=C0603C180J5GACTU; Supplier Part Number 1: 399-1052-1-ND
footprint CAP_0603 (Chip Capacitor, 2-Leads, Body 1,6x0,8mm, IPC High Density)
pins: 1, 2

## 20pF_50V_0402
designator C?, comment 20pF
CAP CER 20pF 50V 10% X7R 0402; Manufacturer: Samsung Electro-Mechanics; Manufacturer Part Number: CL05C200JB5NNNC; Tolerance: ±5%; Temperature Coefficient: C0G, NP0; Notification: Current market demand for these product types have resulted in fluctuating and extending lead times. Lead times may differ.; Supplier 1: Digi-Key; RoHS: RoHS Compliant; Category: Capacitors; Stock 1: 100000; Pricing 1: 1=0.1, 10=0.034, 100=0.0154, 500=0.01114, 1000=0.00888, 2500=0.00814, 5000=0.00753 (USD); Packaging: Cut Tape (CT); Part Status: Active; Voltage - Rated: 50V; Operating Temperature: -55°C ~ 125°C; Features: -; Ratings: -; Applications: General Purpose; Mounting Type: Surface Mount, MLCC; Package / Case: 0402 (1005 Metric); Size / Dimension: 0.039" L x 0.020" W (1.00mm x 0.50mm); Height - Seated (Max): -; Thickness (Max): 0.022" (0.55mm); Lead Spacing: -; Lead Style: -; ComponentLink1URL: http://www.samsungsem.com/kr/support/product-search/mlcc/CL05C200JB5NNNC.jsp; ComponentLink1Description: http://www.samsungsem.com/kr/support/product-search/mlcc/CL05C200JB5NNNC.jsp; Supplier Part Number 1: 1276-1661-1-ND
footprint CAP_0402_L (Chip Capacitor, 2-Leads, Body 1.00x0.50mm, IPC High Density)
pins: 1, 2
2 alternate drawings of the same symbol

## 20pF_50V_0603
designator C?, comment 20pF
CAP CER 22pF 50V 10% X7R 0603; Manufacturer: Samsung Electro-Mechanics America, Inc; Manufacturer Part Number: CL10C200JB8NNNC; Tolerance: ±5%; Temperature Coefficient: C0G, NP0; Supplier 1: Digi-Key; Supplier Part Number 1: 1276-1187-1-ND; RoHS: RoHS Compliant; Category: Capacitors; Stock 1: 160212; Pricing 1: 1=0.1, 10=0.03, 25=0.0212, 50=0.0164, 100=0.0138, 250=0.01128, 500=0.00966, 1000=0.00753 (USD); Packaging: Cut Tape (CT); Capacitance: 20pF; Voltage - Rated: 50V; Mounting Type: Surface Mount, MLCC; Operating Temperature: -55°C ~ 125°C; Applications: General Purpose; Ratings: -; Package / Case: 0603 (1608 Metric); Size / Dimension: 0.063" L x 0.031" W (1.60mm x 0.80mm); Height - Seated (Max): -; Thickness (Max): 0.035" (0.90mm); Lead Spacing: -; Features: -; Lead Style: -; ComponentLink1URL: http://www.samsungsem.com/servlet/FileDownload?type=spec&file=CL10C200JB8NNNC.pdf; ComponentLink1Description: http://www.samsungsem.com/servlet/FileDownload?type=spec&file=CL10C200JB8NNNC.pdf
footprint CAP_0603 (Chip Capacitor, 2-Leads, Body 1,6x0,8mm, IPC High Density)
pins: 1, 2
2 alternate drawings of the same symbol

## 22nF_50V_0402
designator C?, comment 22nF
CAP CER 22NF 35V 10% X5R 0402; Manufacturer: Kemet; Manufacturer Part Number: C0402C223K5RACTU; Capacitance: 0.022µF; Voltage - Rated: 50V; Temperature Coefficient: X7R; Supplier 1: Digi-Key; Supplier Part Number 1: 399-7780-1-ND; RoHS: RoHS Compliant; Category: Capacitors; Stock 1: 26910; Pricing 1: 1=0.15, 10=0.088, 50=0.0476, 100=0.0402, 250=0.03288, 500=0.02814, 1000=0.02191, 2500=0.01972, 5000=0.01826 (CAD); Packaging: Cut Tape (CT); Tolerance: ±10%; Mounting Type: Surface Mount, MLCC; Operating Temperature: -55°C ~ 125°C; Applications: General Purpose; Ratings: -; Package / Case: 0402 (1005 Metric); Size / Dimension: 0.039" L x 0.020" W (1.00mm x 0.50mm); Height - Seated (Max): -; Thickness (Max): 0.022" (0.55mm); Lead Spacing: -; Features: -; Lead Style: -; ComponentLink1URL: http://www.kemet.com/docfinder?Partnumber=C0402C223K5RACTU; ComponentLink1Description: http://www.kemet.com/docfinder?Partnumber=C0402C223K5RACTU
footprint CAP_0402_M (Chip Capacitor, 2-Leads, Body 1.00x0.50mm, IPC Medium Density)
pins: 1, 2

## 22uF_10V_0805
designator C?, comment 22uF
CAP CER 22UF 10V X5R 0805; Manufacturer: Murata Electronics North America; Manufacturer Part Number: GRM219R61A226MEA0D; Capacitance: 22µF; Tolerance: ±20%; Supplier 1: Digi-Key; RoHS: RoHS Compliant; Category: Capacitors; Stock 1: 11636; Pricing 1: 1=0.61, 10=0.529, 50=0.3212, 100=0.2646, 250=0.2116, 500=0.19272, 1000=0.17382 (CAD); Packaging: Cut Tape (CT); Voltage - Rated: 10V; Temperature Coefficient: X5R; Mounting Type: Surface Mount, MLCC; Operating Temperature: -55°C ~ 85°C; Applications: General Purpose; Ratings: -; Package / Case: 0805 (2012 Metric); Size / Dimension: 0.079" L x 0.049" W (2.00mm x 1.25mm); Height - Seated (Max): -; Thickness (Max): 0.037" (0.95mm); Lead Spacing: -; Features: Derating Recommended; Lead Style: -; ComponentLink1URL: http://www.murata.com/~/media/webrenewal/support/library/catalog/products/capacitor/mlcc/c02e.pdf; ComponentLink1Description: http://www.murata.com/~/media/webrenewal/support/library/catalog/products/capacitor/mlcc/c02e.pdf; Supplier Part Number 1: 490-9951-1-ND
footprint CAPC2012X09N (Chip Capacitor, 2-Leads, Body 2.00x1.20mm, IPC Medium Density)
pins: 1, 2

## 22uF_10V_1206
designator C?, comment 22uF LP
CAP CER 22UF 10V Y5V 1206 LP; Manufacturer: Samsung Electro-Mechanics America, Inc.; Manufacturer Part Number: CL31A226MOCLNNC; Capacitance: 22µF; Tolerance: ±20%; Voltage - Rated: 16V; Temperature Coefficient: X5R; Supplier 1: Digi-Key; RoHS: RoHS Compliant; Category: Capacitors; Stock 1: 567819; Pricing 1: 1=0.45, 10=0.311, 25=0.2488, 50=0.2072, 100=0.1762, 250=0.13992, 500=0.12436, 1000=0.10882 (CAD); Packaging: Cut Tape (CT); Part Status: Active; Operating Temperature: -55°C ~ 85°C; Features: Low Profile; Ratings: -; Applications: General Purpose; Mounting Type: Surface Mount, MLCC; Package / Case: 1206 (3216 Metric); Size / Dimension: 0.126" L x 0.063" W (3.20mm x 1.60mm); Height - Seated (Max): -; Thickness (Max): 0.037" (0.95mm); Lead Spacing: -; Lead Style: -; ComponentLink1URL: http://media.digikey.com/pdf/Data%20Sheets/Samsung%20PDFs/CL31A226MOCLNNC_Spec.pdf; ComponentLink1Description: http://media.digikey.com/pdf/Data%20Sheets/Samsung%20PDFs/CL31A226MOCLNNC_Spec.pdf; Supplier Part Number 1: 1276-2728-1-ND
footprint CAP_1206_LP (Chip Capacitor, 2-Leads, Body 3,1x1,6mm, IPC High Density)
pins: 1, 2

## 22uF_16V_0805
designator C?, comment 22uF
CAP CER 22UF 16V X5R 0805; Manufacturer: Samsung; Manufacturer Part Number: CL21A226MOCLRNC; Description: 22µF 16V Ceramic Capacitor X5R 0805 (2012 Metric) 0.079" L x 0.049" W (2.00mm x 1.25mm); Tolerance: 20%; Supplier 1: Digi-Key; Stock 1: 3855422; Pricing 1: 1=0.37, 10=0.253, 100=0.1431, 500=0.101, 1000=0.0884 (USD); Mount: Surface Mount; Case/Package: 0805; Case Code (Metric): 2012; Case Code (Imperial): 0805; Min Operating Temperature: -55°C; Max Operating Temperature: 85°C; Packaging: Tape and Reel; Capacitance: 22uF; Voltage Rating: 16V; Length: 0.079inch; Width: 0.049inch; Thickness: 0.037inch; Supplier Part Number 1: 1276-6780-6-ND
footprint CAPC2012X10L (Chip Capacitor, 2-Leads, Body 2.00x1.25mm, IPC High Density)
pins: 1, 2

## 22uF_16V_1208
designator C?, comment 22uF 16v
Capacitor 1208 22uF 16v; Manufacturer: Samsung Electro-Mechanics America, Inc; Manufacturer Part Number: CL31A226MOCLNNC; Capacitance: 22µF; Tolerance: ±20%; Temperature Coefficient: X5R; Supplier 1: Digi-Key; RoHS: RoHS Compliant; Category: Capacitors; Stock 1: 99007; Pricing 1: 1=0.47, 10=0.395, 25=0.2716, 100=0.1975, 500=0.13084, 1000=0.11605 (CAD); Packaging: Cut Tape (CT); Voltage - Rated: 16V; Mounting Type: Surface Mount, MLCC; Operating Temperature: -55°C ~ 85°C; Applications: General Purpose; Ratings: -; Package / Case: 1206 (3216 Metric); Size / Dimension: 0.126" L x 0.063" W (3.20mm x 1.60mm); Height - Seated (Max): -; Thickness (Max): 0.037" (0.95mm); Lead Spacing: -; Features: -; Lead Style: -; ComponentLink1URL: http://www.samsungsem.com/kr/front/downloadcms.do?path=/kr/support/product-search/mlcc/__icsFiles/afieldfile/2014/11/05&fileName=S_CL31A226MOCLNNC.pdf; ComponentLink1Description: http://www.samsungsem.com/kr/front/downloadcms.do?path=/kr/support/product-search/mlcc/__icsFiles/afieldfile/2014/11/05&fileName=S_CL31A226MOCLNNC.pdf; Supplier Part Number 1: 1276-2728-1-ND
footprint CAP_1206 (Chip Capacitor, 2-Leads, Body 3,1x1,6mm, IPC High Density)
pins: 1, 2

## 47nF_50V_0402
designator C?, comment 47nF
CAP CER 0.047UF 50V X5R 0402; Manufacturer: TDK Corporation; Manufacturer Part Number: C1005X5R1H473M050BB; Capacitance: 0.047µF; Tolerance: ±20%; Supplier 1: Digi-Key; Supplier Part Number 1: 445-7383-1-ND; RoHS: RoHS Compliant; Category: Capacitors; Stock 1: 15338; Pricing 1: 1=0.15, 10=0.109, 100=0.0502, 250=0.04104, 500=0.03512, 1000=0.02737, 5000=0.02281 (CAD); Packaging: Cut Tape (CT); Voltage - Rated: 50V; Temperature Coefficient: X5R; Mounting Type: Surface Mount, MLCC; Operating Temperature: -55°C ~ 85°C; Applications: General Purpose; Ratings: -; Package / Case: 0402 (1005 Metric); Size / Dimension: 0.039" L x 0.020" W (1.00mm x 0.50mm); Height - Seated (Max): -; Thickness (Max): 0.022" (0.55mm); Lead Spacing: -; Features: -; Lead Style: -; ComponentLink1URL: https://product.tdk.com/info/en/catalog/datasheets/mlcc_commercial_general_en.pdf; ComponentLink1Description: https://product.tdk.com/info/en/catalog/datasheets/mlcc_commercial_general_en.pdf
footprint CAP_0402_M (Chip Capacitor, 2-Leads, Body 1.00x0.50mm, IPC Medium Density)
pins: 1, 2

## 47uF_6.3V_0805
designator C?, comment 47uF
CAP CER 47UF 6.3V X5R 0805; Manufacturer: Taiyo Yuden; Manufacturer Part Number: JMK212BJ476MG-T; Capacitance: 47µF; Tolerance: ±20%; Supplier 1: Digi-Key; RoHS: RoHS Compliant; Category: Capacitors; Stock 1: 539475; Pricing 1: 1=1.17, 10=1.121, 50=0.669, 100=0.5436, 250=0.45164, 500=0.40982, 1000=0.37636 (CAD); Packaging: Cut Tape (CT); Voltage - Rated: 6.3V; Temperature Coefficient: X5R; Mounting Type: Surface Mount, MLCC; Operating Temperature: -55°C ~ 85°C; Applications: General Purpose; Ratings: -; Package / Case: 0805 (2012 Metric); Size / Dimension: 0.079" L x 0.049" W (2.00mm x 1.25mm); Height - Seated (Max): -; Thickness (Max): 0.053" (1.35mm); Lead Spacing: -; Features: -; Lead Style: -; ComponentLink1URL: http://www.yuden.co.jp/productdata/catalog/en/mlcc_all_e.pdf; ComponentLink1Description: http://www.yuden.co.jp/productdata/catalog/en/mlcc_all_e.pdf; Supplier Part Number 1: 587-1779-1-ND
footprint CAPC2012X10L (Chip Capacitor, 2-Leads, Body 2.00x1.25mm, IPC High Density)
pins: 1, 2

## 47uF_35v_6.3x5.8
designator C?, comment 47uF
Capacitor 35v 47uF 6.3mm; Manufacturer: Nichicon; Manufacturer Part Number: UWT1V470MCL1GS; Capacitance: 47µF; Tolerance: ±20%; Lifetime @ Temp.: 1000 Hrs @ 105°C; Ripple Current: 63mA; Surface Mount Land Size: 0.260" L x 0.260" W (6.60mm x 6.60mm); Supplier 1: Digi-Key; Supplier Part Number 1: 493-2202-1-ND; RoHS: RoHS Compliant; Category: Capacitors; Stock 1: 9260; Pricing 1: 1=0.43, 10=0.372, 25=0.2656, 50=0.2256, 100=0.1858, 250=0.14864, 500=0.13538 (CAD); Packaging: Cut Tape (CT); Voltage Rating: 35V; ESR (Equivalent Series Resistance): -; Operating Temperature: -55°C ~ 105°C; Type: -; Applications: General Purpose; Impedance: -; Lead Spacing: -; Size / Dimension: 0.248" Dia (6.30mm); Height - Seated (Max): 0.228" (5.80mm); Mounting Type: Surface Mount; Package / Case: Radial, Can - SMD; ComponentLink1URL: http://nichicon-us.com/english/products/pdfs/e-wt.pdf; ComponentLink1Description: http://nichicon-us.com/english/products/pdfs/e-wt.pdf
footprint CAPAE7266X66M (Aluminum Electrolytic Capacitor, Body 6.60x6.60x6.60mm, IPC Low Density)
pins: 1, 2
text: +

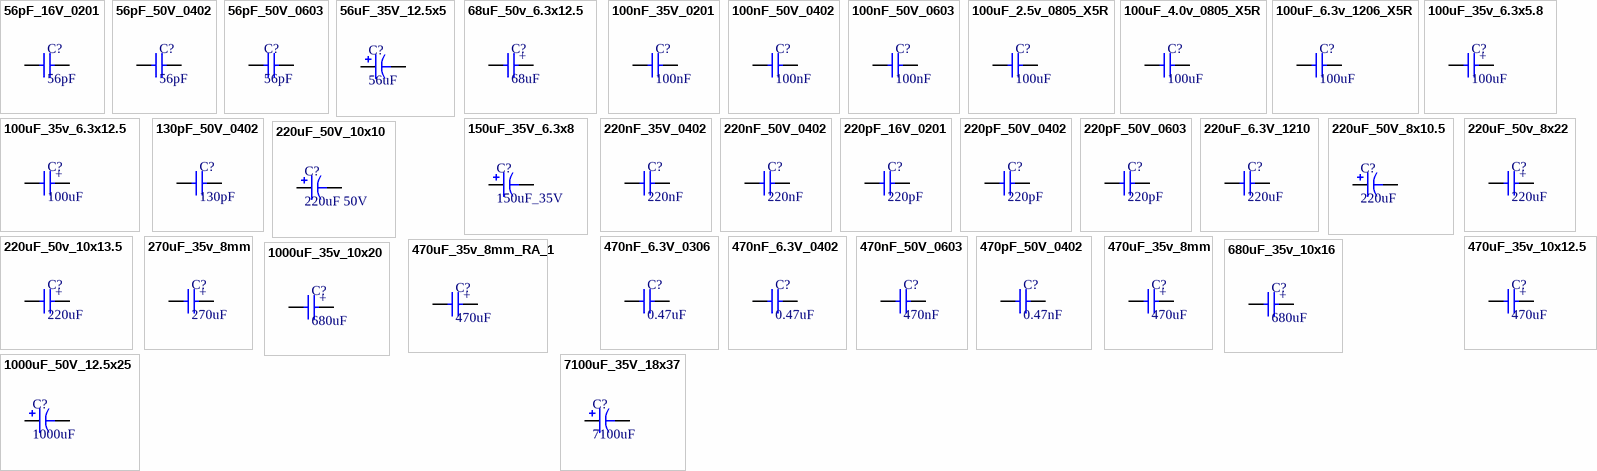
[diagram p1: symbols 56pF_16V_0201 to 7100uF_35V_18x37]

## 56pF_16V_0201
designator C?, comment 56pF
CAP CER 56PF 16V C0G/NP0 0201; Manufacturer: KEMET; Manufacturer Part Number: C0201C560J4GAC7867; Tolerance: ±5%; Temperature Coefficient: C0G, NP0; Notification: Current market demand for these product types have resulted in fluctuating and extending lead times. Lead times may differ.; Supplier 1: Digi-Key; RoHS: RoHS Compliant; Category: Capacitors; Stock 1: 14880; Pricing 1: 1=0.17, 10=0.121, 100=0.057, 500=0.03996, 1000=0.03307, 2500=0.03078, 5000=0.02816 (USD); Packaging: Cut Tape (CT); Part Status: Active; Voltage - Rated: 16V; Operating Temperature: -55°C ~ 125°C; Features: -; Ratings: -; Applications: General Purpose; Failure Rate: -; Mounting Type: Surface Mount, MLCC; Package / Case: 0201 (0603 Metric); Size / Dimension: 0.024" L x 0.012" W (0.60mm x 0.30mm); Height - Seated (Max): -; Thickness (Max): 0.013" (0.33mm); Lead Spacing: -; Lead Style: -; ComponentLink1URL: https://search.kemet.com/component-edge/download/datasheet/C0201C560J4GAC7867.pdf; ComponentLink1Description: https://search.kemet.com/component-edge/download/datasheet/C0201C560J4GAC7867.pdf; Supplier Part Number 1: 399-14862-1-ND
footprint CAPC0603X03N (Chip Capacitor, 2-Leads, Body 0.60x0.30mm, IPC Medium Density)
pins: 1, 2

## 56pF_50V_0402
designator C?, comment 56pF
CAP CER 56PF 50V 5% C0G 0402; Manufacturer: Kemet; Manufacturer Part Number: C0402C560J5GACTU; Temperature Coefficient: C0G, NP0; Supplier 1: Digi-Key; RoHS: RoHS Compliant; Category: Capacitors; Stock 1: 36631; Pricing 1: 1=0.14, 10=0.037, 25=0.026, 50=0.0198, 100=0.0166, 250=0.01364, 1000=0.00893, 2500=0.00804, 5000=0.00744 (CAD); Packaging: Cut Tape (CT); Capacitance: 56pF; Tolerance: ±5%; Voltage - Rated: 50V; Mounting Type: Surface Mount, MLCC; Operating Temperature: -55°C ~ 125°C; Applications: General Purpose; Ratings: -; Package / Case: 0402 (1005 Metric); Size / Dimension: 0.039" L x 0.020" W (1.00mm x 0.50mm); Height - Seated (Max): -; Thickness (Max): 0.022" (0.55mm); Lead Spacing: -; Features: -; Lead Style: -; ComponentLink1URL: http://www.kemet.com/docfinder?Partnumber=C0402C560J5GACTU; ComponentLink1Description: http://www.kemet.com/docfinder?Partnumber=C0402C560J5GACTU; Supplier Part Number 1: 399-1020-1-ND
footprint CAP_0402_M (Chip Capacitor, 2-Leads, Body 1.00x0.50mm, IPC Medium Density)
pins: 1, 2

## 56pF_50V_0603
designator C?, comment 56pF
CAP CER 56PF 50V C0G/NP0 0603; Manufacturer: KEMET; Manufacturer Part Number: C0603C560F5GACTU; Dielectric Material: Ceramic; Tolerance: 1%; Dielectric: C0G; Supplier 1: Digi-Key; Supplier Part Number 1: C0603C560F5GACTU-ND; Stock 1: 0; Mount: Surface Mount; Case/Package: 0603; Weight: 7.1E-05oz; Case Code (Metric): 1608; Case Code (Imperial): 0603; Min Operating Temperature: -55°C; Max Operating Temperature: 125°C; Capacitance: 56pF; Packaging: Tape and Reel; Voltage Rating: 50V; Voltage Rating (DC): 50V; Package Quantity: 1; Termination: SMD/SMT; Length: 1.6mm; Height: 0.8mm; Width: 0.031inch; Thickness: 0.034inch; Depth: 0.8mm; Radiation Hardening: No; Lead Free: Lead Free; REACH SVHC: No SVHC
footprint CAP_0603 (Chip Capacitor, 2-Leads, Body 1,6x0,8mm, IPC High Density)
pins: 1, 2

## 56uF_35V_12.5x5
designator C?, comment 56uF
56µF 35V Aluminum Capacitors Radial; Manufacturer: Rubycon; Manufacturer Part Number: 35ZLQ56MEFC5X11; Tolerance: ±20%; Lifetime @ Temp.: 3000 Hrs @ 105°C; Polarization: Polar; Ripple Current: 200mA @ 120Hz; Impedance: 210 mOhm; Supplier 1: Digi-Key; Supplier Part Number 1: 1189-3656-ND; RoHS: RoHS Compliant; Category: Capacitors; Stock 1: 2775; Pricing 1: 1=0.38, 10=0.253, 25=0.202, 50=0.1686, 100=0.1433, 250=0.1138, 500=0.10114, 1000=0.0885, 5000=0.07797 (CAD); Packaging: Bulk; Part Status: Active; Capacitance: 56µF; Voltage Rating: 35V; ESR (Equivalent Series Resistance): -; Operating Temperature: -40°C ~ 105°C; Applications: General Purpose; Lead Spacing: 0.079" (2.00mm); Size / Dimension: 0.197" Dia (5.00mm); Height - Seated (Max): 0.490" (12.50mm); Surface Mount Land Size: -; Mounting Type: Through Hole; Package / Case: Radial, Can; ComponentLink1URL: http://www.rubycon.co.jp/en/catalog/e_pdfs/aluminum/e_ZLQ.pdf; ComponentLink1Description: http://www.rubycon.co.jp/en/catalog/e_pdfs/aluminum/e_ZLQ.pdf
footprint CAP_5MM
pins: 1, 2